# EAGLE library part SSW-119-02-S-Q (library con-samtec)
THROUGH-HOLE .025" SQ POST SOCKET Source: Samtec SSW.pdf
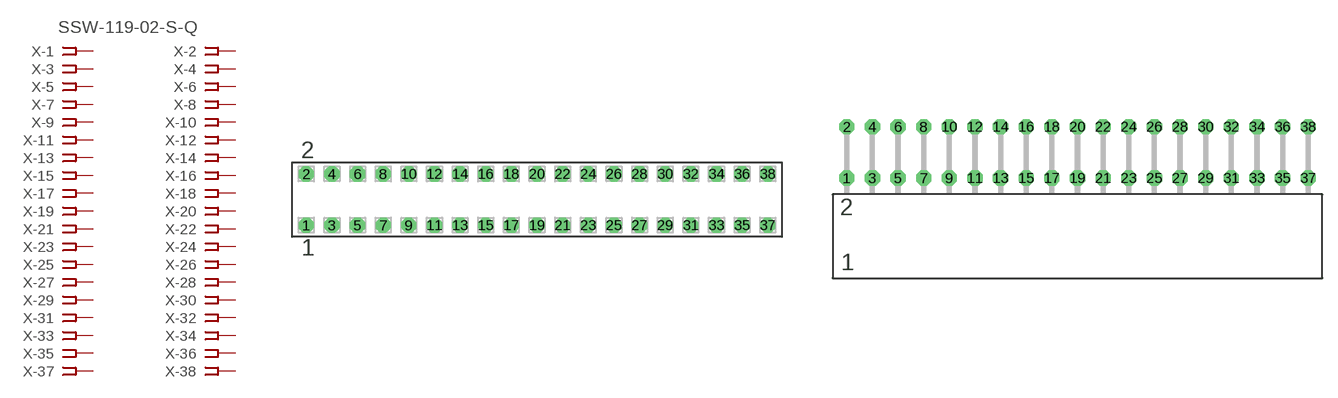
[diagram p129: symbol with the pads of SSW-119-02-S-Q; footprints SSW-119-02-S-Q, SSW-119-02-S-Q-RA]

Designator prefix X; gates -1=FPINV -2=FPIN -3=FPIN -4=FPIN -5=FPIN -6=FPIN -7=FPIN -8=FPIN -9=FPIN -10=FPIN -11=FPIN -12=FPIN -13=FPIN -14=FPIN -15=FPIN -16=FPIN -17=FPIN -18=FPIN -19=FPIN -20=FPIN -21=FPIN -22=FPIN -23=FPIN -24=FPIN -25=FPIN -26=FPIN -27=FPIN -28=FPIN -29=FPIN -30=FPIN -31=FPIN -32=FPIN -33=FPIN -34=FPIN -35=FPIN -36=FPIN -37=FPIN -38=FPIN

## SSW-119-02-S-Q  [SSW-119-02-S-Q]
1  -1:1  pas
2  -2:1  pas
3  -3:1  pas
4  -4:1  pas
5  -5:1  pas
6  -6:1  pas
7  -7:1  pas
8  -8:1  pas
9  -9:1  pas
10  -10:1  pas
11  -11:1  pas
12  -12:1  pas
13  -13:1  pas
14  -14:1  pas
15  -15:1  pas
16  -16:1  pas
17  -17:1  pas
18  -18:1  pas
19  -19:1  pas
20  -20:1  pas
21  -21:1  pas
22  -22:1  pas
23  -23:1  pas
24  -24:1  pas
25  -25:1  pas
26  -26:1  pas
27  -27:1  pas
28  -28:1  pas
29  -29:1  pas
30  -30:1  pas
31  -31:1  pas
32  -32:1  pas
33  -33:1  pas
34  -34:1  pas
35  -35:1  pas
36  -36:1  pas
37  -37:1  pas
38  -38:1  pas

## SSW-119-02-S-QRA  [SSW-119-02-S-Q-RA]
Pads as for SSW-119-02-S-Q

## Footprint SSW-119-02-S-Q (pad centres in mm)
THROUGH-HOLE .025" SQ POST SOCKET Source: Samtec SSW.pdf
drill 1 pad 1.5 octagon: 1 -22.86,-2.54; 2 -22.86,2.54; 3 -20.32,-2.54; 4 -20.32,2.54; 5 -17.78,-2.54; 6 -17.78,2.54; 7 -15.24,-2.54; 8 -15.24,2.54; 9 -12.7,-2.54; 10 -12.7,2.54; 11 -10.16,-2.54; 12 -10.16,2.54; 13 -7.62,-2.54; 14 -7.62,2.54; 15 -5.08,-2.54; 16 -5.08,2.54; 17 -2.54,-2.54; 18 -2.54,2.54; 19 0,-2.54; 20 0,2.54; 21 2.54,-2.54; 22 2.54,2.54; 23 5.08,-2.54; 24 5.08,2.54; 25 7.62,-2.54; 26 7.62,2.54; 27 10.16,-2.54; 28 10.16,2.54; 29 12.7,-2.54; 30 12.7,2.54; 31 15.24,-2.54; 32 15.24,2.54; 33 17.78,-2.54; 34 17.78,2.54; 35 20.32,-2.54; 36 20.32,2.54; 37 22.86,-2.54; 38 22.86,2.54

## Footprint SSW-119-02-S-Q-RA (pad centres in mm)
THROUGH-HOLE .025" SQ POST SOCKET Source: Samtec SSW.pdf
drill 1 pad 1.5 octagon: 1 -22.86,1.524; 2 -22.86,6.604; 3 -20.32,1.524; 4 -20.32,6.604; 5 -17.78,1.524; 6 -17.78,6.604; 7 -15.24,1.524; 8 -15.24,6.604; 9 -12.7,1.524; 10 -12.7,6.604; 11 -10.16,1.524; 12 -10.16,6.604; 13 -7.62,1.524; 14 -7.62,6.604; 15 -5.08,1.524; 16 -5.08,6.604; 17 -2.54,1.524; 18 -2.54,6.604; 19 0,1.524; 20 0,6.604; 21 2.54,1.524; 22 2.54,6.604; 23 5.08,1.524; 24 5.08,6.604; 25 7.62,1.524; 26 7.62,6.604; 27 10.16,1.524; 28 10.16,6.604; 29 12.7,1.524; 30 12.7,6.604; 31 15.24,1.524; 32 15.24,6.604; 33 17.78,1.524; 34 17.78,6.604; 35 20.32,1.524; 36 20.32,6.604; 37 22.86,1.524; 38 22.86,6.604